# Altium schematic symbol library TVS.SchLib: 5 symbols
Pins are listed as number, name and electrical type; pins without a type are passive.

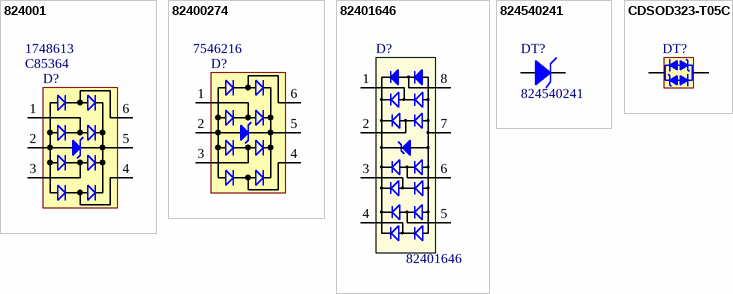
[diagram p0: symbols 824001 to CDSOD323-T05C]

## 824001
designator D?  Supplier Part Number 2: C85364  Supplier Part Number 1: 1748613  (hidden comment: 824001)
WE-TVS TVS Diode 4+1Ch 5V SOT23-6L; Manufacturer: Wurth Elektronik; Manufacturer Part Number: 824001; Type: TVS; Value: 5V; Supplier Footprint 2: SOT-23-6L; ComponentLink1Description: Datasheet; ComponentLink1URL: https://www.we-online.com/catalog/datasheet/824001.pdf; Supplier 2: JLCPCB; Supplier 1: Farnell
footprint SOT-23-6L
pins: 1, 2, 3, 4, 5, 6

## 82400274
designator D?  Supplier Part Number 1: 7546216  (hidden comment: 82400274)
WE-TVS TVS Diode 4+1Ch 5V SC70-6L; Manufacturer: Wurth Elektronik; ComponentLink1Description: Datasheet; ComponentLink1URL: https://www.we-online.com/catalog/datasheet/82400274.pdf; Manufacturer Part Number: 82400274; Type: TVS; Value: 5V; Supplier Footprint 2: SOT-23-6L; Supplier 1: RSComponents
footprint SC70-6L (TVS Diode, package SC70-6L)
pins: 1, 2, 3, 4, 5, 6

## 82401646
designator D?
TVS DIODE 5VWM 13VC 8MSOP; Manufacturer: Wurth Electronics Inc.; Value: 5V; Supplier 1: Farnell; Manufacturer Part Number: 82401646; ComponentLink1URL: https://www.we-online.com/catalog/datasheet/82401646.pdf; ComponentLink1Description: Datasheet; Supplier Part Number 1: 1825864; Type: TVS
footprint MSOP-8L (MSOP-8L, 8-Leads, Body 5x3mm, Pitch 0.5mm)
pins: 1 "I/O1", 2 "I/O2", 3 "I/O3", 4 "I/O4", 5 "I/O5", 6 "I/O6", 7 "GND", 8 "VDD"

## 824540241
designator DT?
WE-TVSP Power TVS Diode, Unidirectional, 1500 W, 24 VDC; Manufacturer: Wurth Electronics Inc.; Value: 24V; Supplier 1: Farnell; Supplier Part Number 1: 2536699; Manufacturer Part Number: 824540241; ComponentLink1URL: https://www.we-online.com/catalog/datasheet/824540241.pdf; ComponentLink1Description: Datasheet; Type: TVS
footprint SMC, DO-214AB (WE-TVSP Power TVS Diode, DO-214AB, Unidirectional)
pins: 1, 2

## CDSOD323-T05C
designator DT?  (value not drawn)
TVS DIODE 5VWM 18.3VC SOD323; Manufacturer: Bourns Inc.; Value: 5V; ComponentLink1Description: Datasheet; ComponentLink1URL: http://www.farnell.com/datasheets/1845299.pdf; ComponentLink2Description: Manufacturer; ComponentLink2URL: http://www.bourns.com/datasheet-search?PART=CDSOD323-T05C&ST=BeginsWith; Supplier 1: Farnell; Supplier Part Number 1: 1824860; Type: TVS; Manufacturer Part Number: CDSOD323-T05C
footprint SOD-323
pins: 1 "1", 2 "2"